# Altium schematic symbol library kmilo17pet-NSC_Interface.SchLib: 1433 symbols (part 24 of 51)
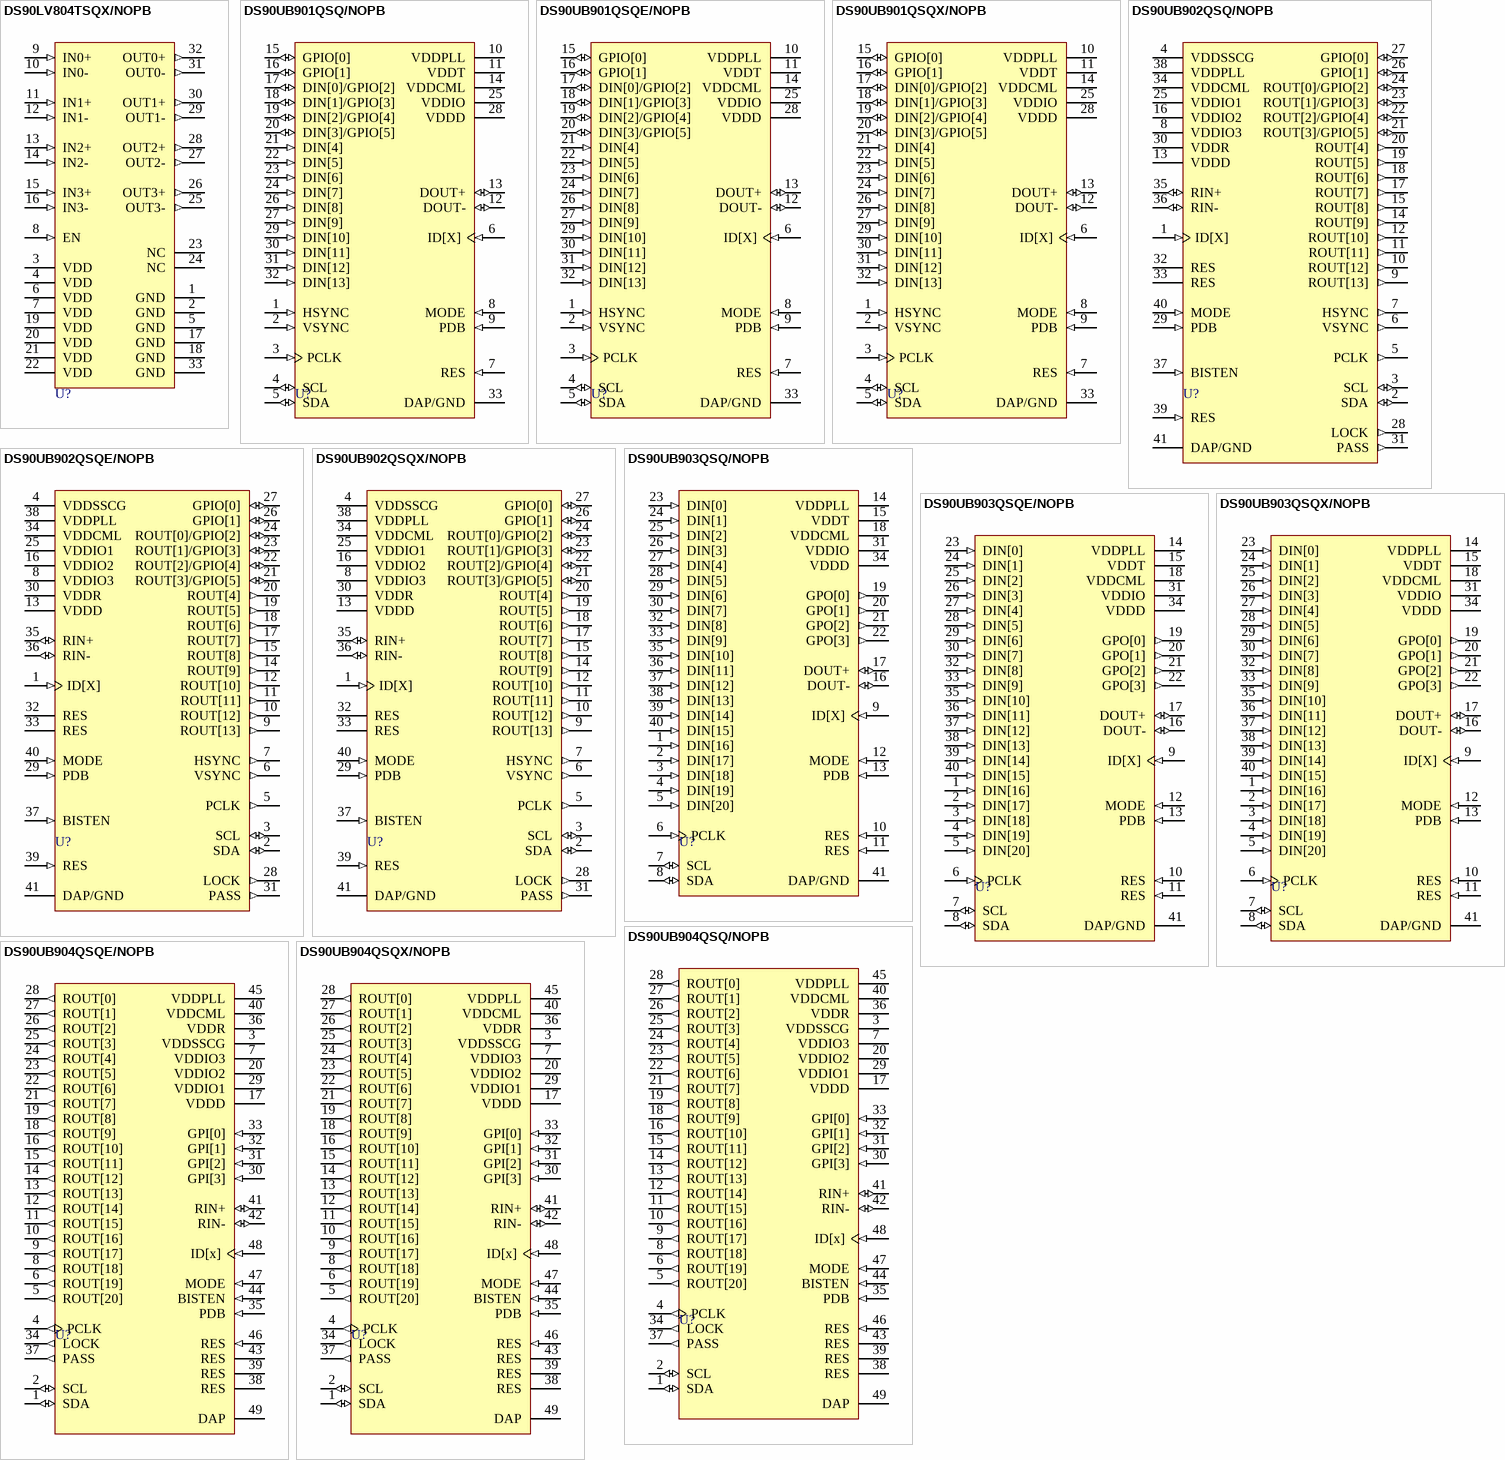
[diagram p147: symbols DS90LV804TSQX/NOPB to DS90UB904QSQX/NOPB]

## DS90UB904QSQ/NOPB
designator U?
10 - 43MHz 18 Bit Color FPD-Link III Deserializer with Bidirectional Control Channel, AECQ 2, 48-pin LLP, 1000 Reel; PartNumber: DS90UB904QSQ/NOPB; Manufacturer: National Semiconductor; PackageTopMarking: NS*UZXYTTE#*UB904QSQ; PowerWise: N; CompType: Interface IC; High-Reliability: Y; DatasheetVersion: Jan-2011; PackageVersion: revB, May-2009; PackageReference: SQA48A; PackageDescription: LLP, Plastic, Quad, 7 x 7 x 0.8mm Body, 48 Lead, 0.5mm Pitch, No Pullback; RoHS: Y; PinCount: 48; Code_JEDEC: MO-220-WKKD-2; ComponentLink1Description: Manufacturer URL; ComponentLink1URL: http://www.national.com/; ComponentLink2Description: DS90UB904Q Datasheet; ComponentLink2URL: http://www.national.com/ds/DS/DS90UB904Q.pdf; ComponentLink3Description: DS90UB904Q Web Page; ComponentLink3URL: http://www.national.com/pf/DS/DS90UB904Q.html; ComponentLink4Description: SQA48A Package Page; ComponentLink4URL: http://www.national.com/packaging/folders/sqa48a.html
footprint SQA48A (QFN, 48-Leads, Body 7x7mm, Pitch 0.5mm, Thermal Pad 5.2x5.2mm, NSC Recommended)
pins: 1 SDA (io), 2 SCL (io), 3 VDDSSCG (power), 4 PCLK (out), 5 ROUT[20] (out), 6 ROUT[19] (out), 7 VDDIO3 (power), 8 ROUT[18] (out), 9 ROUT[17] (out), 10 ROUT[16] (out), 11 ROUT[15] (out), 12 ROUT[14] (out), 13 ROUT[13] (out), 14 ROUT[12] (out), 15 ROUT[11] (out), 16 ROUT[10] (out), 17 VDDD (power), 18 ROUT[9] (out), 19 ROUT[8] (out), 20 VDDIO2 (power), 21 ROUT[7] (out), 22 ROUT[6] (out), 23 ROUT[5] (out), 24 ROUT[4] (out), 25 ROUT[3] (out), 26 ROUT[2] (out), 27 ROUT[1] (out), 28 ROUT[0] (out), 29 VDDIO1 (power), 30 GPI[3] (in), 31 GPI[2] (in), 32 GPI[1] (in), 33 GPI[0] (in), 34 LOCK (out), 35 PDB (in), 36 VDDR (power), 37 PASS (out), 38 RES, 39 RES, 40 VDDCML (power), 41 RIN+ (io), 42 RIN- (io), 43 RES, 44 BISTEN (in), 45 VDDPLL (power), 46 RES (in), 47 MODE (in), 48 ID[x] (in), 49 DAP (power)

## DS90UB904QSQE/NOPB
designator U?
10 - 43MHz 18 Bit Color FPD-Link III Deserializer with Bidirectional Control Channel, AECQ 2, 48-pin LLP, 250 Reel; PartNumber: DS90UB904QSQE/NOPB; Manufacturer: National Semiconductor; PackageTopMarking: NS*UZXYTTE#*UB904QSQ; PowerWise: N; CompType: Interface IC; High-Reliability: Y; DatasheetVersion: Jan-2011; PackageVersion: revB, May-2009; PackageReference: SQA48A; PackageDescription: LLP, Plastic, Quad, 7 x 7 x 0.8mm Body, 48 Lead, 0.5mm Pitch, No Pullback; RoHS: Y; PinCount: 48; Code_JEDEC: MO-220-WKKD-2; ComponentLink1Description: Manufacturer URL; ComponentLink1URL: http://www.national.com/; ComponentLink2Description: DS90UB904Q Datasheet; ComponentLink2URL: http://www.national.com/ds/DS/DS90UB904Q.pdf; ComponentLink3Description: DS90UB904Q Web Page; ComponentLink3URL: http://www.national.com/pf/DS/DS90UB904Q.html; ComponentLink4Description: SQA48A Package Page; ComponentLink4URL: http://www.national.com/packaging/folders/sqa48a.html
footprint SQA48A (QFN, 48-Leads, Body 7x7mm, Pitch 0.5mm, Thermal Pad 5.2x5.2mm, NSC Recommended)
pins: 1 SDA (io), 2 SCL (io), 3 VDDSSCG (power), 4 PCLK (out), 5 ROUT[20] (out), 6 ROUT[19] (out), 7 VDDIO3 (power), 8 ROUT[18] (out), 9 ROUT[17] (out), 10 ROUT[16] (out), 11 ROUT[15] (out), 12 ROUT[14] (out), 13 ROUT[13] (out), 14 ROUT[12] (out), 15 ROUT[11] (out), 16 ROUT[10] (out), 17 VDDD (power), 18 ROUT[9] (out), 19 ROUT[8] (out), 20 VDDIO2 (power), 21 ROUT[7] (out), 22 ROUT[6] (out), 23 ROUT[5] (out), 24 ROUT[4] (out), 25 ROUT[3] (out), 26 ROUT[2] (out), 27 ROUT[1] (out), 28 ROUT[0] (out), 29 VDDIO1 (power), 30 GPI[3] (in), 31 GPI[2] (in), 32 GPI[1] (in), 33 GPI[0] (in), 34 LOCK (out), 35 PDB (in), 36 VDDR (power), 37 PASS (out), 38 RES, 39 RES, 40 VDDCML (power), 41 RIN+ (io), 42 RIN- (io), 43 RES, 44 BISTEN (in), 45 VDDPLL (power), 46 RES (in), 47 MODE (in), 48 ID[x] (in), 49 DAP (power)

## DS90UB904QSQX/NOPB
designator U?
10 - 43MHz 18 Bit Color FPD-Link III Deserializer with Bidirectional Control Channel, AECQ 2, 48-pin LLP, 2500 Reel; PartNumber: DS90UB904QSQX/NOPB; Manufacturer: National Semiconductor; PackageTopMarking: NS*UZXYTTE#*UB904QSQ; PowerWise: N; CompType: Interface IC; High-Reliability: Y; DatasheetVersion: Jan-2011; PackageVersion: revB, May-2009; PackageReference: SQA48A; PackageDescription: LLP, Plastic, Quad, 7 x 7 x 0.8mm Body, 48 Lead, 0.5mm Pitch, No Pullback; RoHS: Y; PinCount: 48; Code_JEDEC: MO-220-WKKD-2; ComponentLink1Description: Manufacturer URL; ComponentLink1URL: http://www.national.com/; ComponentLink2Description: DS90UB904Q Datasheet; ComponentLink2URL: http://www.national.com/ds/DS/DS90UB904Q.pdf; ComponentLink3Description: DS90UB904Q Web Page; ComponentLink3URL: http://www.national.com/pf/DS/DS90UB904Q.html; ComponentLink4Description: SQA48A Package Page; ComponentLink4URL: http://www.national.com/packaging/folders/sqa48a.html
footprint SQA48A (QFN, 48-Leads, Body 7x7mm, Pitch 0.5mm, Thermal Pad 5.2x5.2mm, NSC Recommended)
pins: 1 SDA (io), 2 SCL (io), 3 VDDSSCG (power), 4 PCLK (out), 5 ROUT[20] (out), 6 ROUT[19] (out), 7 VDDIO3 (power), 8 ROUT[18] (out), 9 ROUT[17] (out), 10 ROUT[16] (out), 11 ROUT[15] (out), 12 ROUT[14] (out), 13 ROUT[13] (out), 14 ROUT[12] (out), 15 ROUT[11] (out), 16 ROUT[10] (out), 17 VDDD (power), 18 ROUT[9] (out), 19 ROUT[8] (out), 20 VDDIO2 (power), 21 ROUT[7] (out), 22 ROUT[6] (out), 23 ROUT[5] (out), 24 ROUT[4] (out), 25 ROUT[3] (out), 26 ROUT[2] (out), 27 ROUT[1] (out), 28 ROUT[0] (out), 29 VDDIO1 (power), 30 GPI[3] (in), 31 GPI[2] (in), 32 GPI[1] (in), 33 GPI[0] (in), 34 LOCK (out), 35 PDB (in), 36 VDDR (power), 37 PASS (out), 38 RES, 39 RES, 40 VDDCML (power), 41 RIN+ (io), 42 RIN- (io), 43 RES, 44 BISTEN (in), 45 VDDPLL (power), 46 RES (in), 47 MODE (in), 48 ID[x] (in), 49 DAP (power)

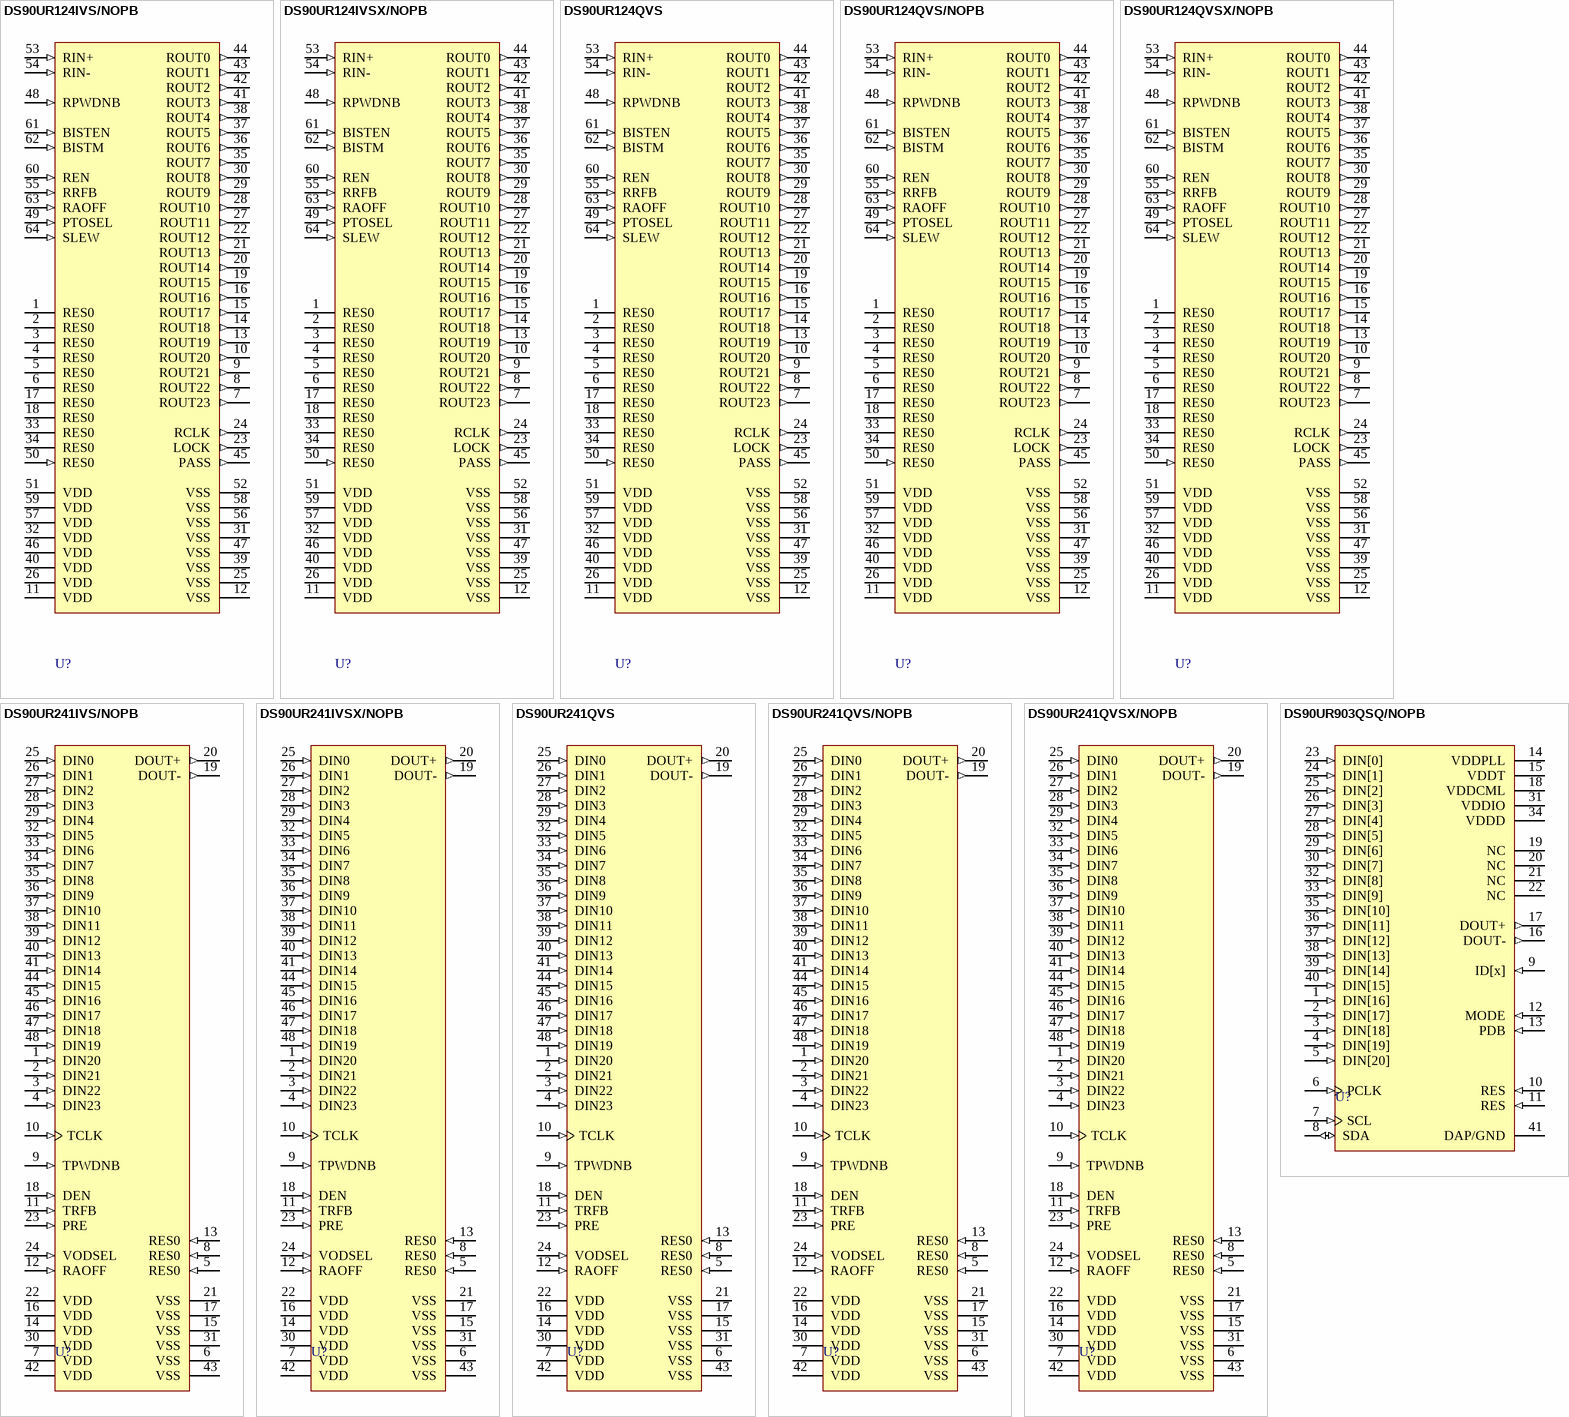
[diagram p64: symbols DS90UR124IVS/NOPB to DS90UR903QSQ/NOPB]

## DS90UR124IVS/NOPB
designator U?
5-43MHz DC-Balanced 24-Bit FPD-Link II Deserializer, 64 pin TQFP; PartNumber: DS90UR124IVS/NOPB; Manufacturer: National Semiconductor; PackageTopMarking: NSUZXYYTTE#*DS90UR124*IVS; PowerWise: N; CompType: Interface IC; High-Reliability: Y; DatasheetVersion: Sep-2009; PackageVersion: revB, Jul-2003; PackageReference: VEC64A; PackageDescription: TQFP, Jedec Metric, 10 x 10 x 1.0mm, 64 Lead, 0.5mm Pitch; RoHS: Y; PinCount: 64; Code_JEDEC: MS-026-ACD; ComponentLink1Description: Manufacturer URL; ComponentLink1URL: http://www.national.com/; ComponentLink2Description: DS90UR124 Datasheet; ComponentLink2URL: http://www.national.com/ds/DS/DS90UR124.pdf; ComponentLink3Description: DS90UR124 Web Page; ComponentLink3URL: http://www.national.com/pf/DS/DS90UR124.html; ComponentLink4Description: VEC64A Package Page; ComponentLink4URL: http://www.national.com/packaging/folders/vec64a.html
footprint VEC64A_N (Thin QFP, 64-Leads, Body 10x10mm, Pitch 0.5mm, IPC Medium Density)
footprint VEC64A_L (Thin QFP, 64-Leads, Body 10x10mm, Pitch 0.5mm, IPC High Density)
footprint VEC64A_M (Thin QFP, 64-Leads, Body 10x10mm, Pitch 0.5mm, IPC Low Density)
pins: 1 RES0, 2 RES0, 3 RES0, 4 RES0, 5 RES0, 6 RES0, 7 ROUT23 (out), 8 ROUT22 (out), 9 ROUT21 (out), 10 ROUT20 (out), 11 VDD (power), 12 VSS (power), 13 ROUT19 (out), 14 ROUT18 (out), 15 ROUT17 (out), 16 ROUT16 (out), 17 RES0, 18 RES0, 19 ROUT15 (out), 20 ROUT14 (out), 21 ROUT13 (out), 22 ROUT12 (out), 23 LOCK (out), 24 RCLK (out), 25 VSS (power), 26 VDD (power), 27 ROUT11 (out), 28 ROUT10 (out), 29 ROUT9 (out), 30 ROUT8 (out), 31 VSS (power), 32 VDD (power), 33 RES0, 34 RES0, 35 ROUT7 (out), 36 ROUT6 (out), 37 ROUT5 (out), 38 ROUT4 (out), 39 VSS (power), 40 VDD (power), 41 ROUT3 (out), 42 ROUT2 (out), 43 ROUT1 (out), 44 ROUT0 (out), 45 PASS (out), 46 VDD (power), 47 VSS (power), 48 RPWDNB (in), 49 PTOSEL (in), 50 RES0 (in), 51 VDD (power), 52 VSS (power), 53 RIN+ (in), 54 RIN- (in), 55 RRFB (in), 56 VSS (power), 57 VDD (power), 58 VSS (power), 59 VDD (power), 60 REN (in), 61 BISTEN (in), 62 BISTM (in), 63 RAOFF (in), 64 SLEW (in)

## DS90UR124IVSX/NOPB
designator U?
5-43MHz DC-Balanced 24-Bit FPD-Link II Deserializer, 64 pin TQFP; PartNumber: DS90UR124IVSX/NOPB; Manufacturer: National Semiconductor; PackageTopMarking: NSUZXYYTTE#*DS90UR124*IVS; PowerWise: N; CompType: Interface IC; High-Reliability: Y; DatasheetVersion: Sep-2009; PackageVersion: revB, Jul-2003; PackageReference: VEC64A; PackageDescription: TQFP, Jedec Metric, 10 x 10 x 1.0mm, 64 Lead, 0.5mm Pitch; RoHS: Y; PinCount: 64; Code_JEDEC: MS-026-ACD; ComponentLink1Description: Manufacturer URL; ComponentLink1URL: http://www.national.com/; ComponentLink2Description: DS90UR124 Datasheet; ComponentLink2URL: http://www.national.com/ds/DS/DS90UR124.pdf; ComponentLink3Description: DS90UR124 Web Page; ComponentLink3URL: http://www.national.com/pf/DS/DS90UR124.html; ComponentLink4Description: VEC64A Package Page; ComponentLink4URL: http://www.national.com/packaging/folders/vec64a.html
footprint VEC64A_N (Thin QFP, 64-Leads, Body 10x10mm, Pitch 0.5mm, IPC Medium Density)
footprint VEC64A_L (Thin QFP, 64-Leads, Body 10x10mm, Pitch 0.5mm, IPC High Density)
footprint VEC64A_M (Thin QFP, 64-Leads, Body 10x10mm, Pitch 0.5mm, IPC Low Density)
pins: 1 RES0, 2 RES0, 3 RES0, 4 RES0, 5 RES0, 6 RES0, 7 ROUT23 (out), 8 ROUT22 (out), 9 ROUT21 (out), 10 ROUT20 (out), 11 VDD (power), 12 VSS (power), 13 ROUT19 (out), 14 ROUT18 (out), 15 ROUT17 (out), 16 ROUT16 (out), 17 RES0, 18 RES0, 19 ROUT15 (out), 20 ROUT14 (out), 21 ROUT13 (out), 22 ROUT12 (out), 23 LOCK (out), 24 RCLK (out), 25 VSS (power), 26 VDD (power), 27 ROUT11 (out), 28 ROUT10 (out), 29 ROUT9 (out), 30 ROUT8 (out), 31 VSS (power), 32 VDD (power), 33 RES0, 34 RES0, 35 ROUT7 (out), 36 ROUT6 (out), 37 ROUT5 (out), 38 ROUT4 (out), 39 VSS (power), 40 VDD (power), 41 ROUT3 (out), 42 ROUT2 (out), 43 ROUT1 (out), 44 ROUT0 (out), 45 PASS (out), 46 VDD (power), 47 VSS (power), 48 RPWDNB (in), 49 PTOSEL (in), 50 RES0 (in), 51 VDD (power), 52 VSS (power), 53 RIN+ (in), 54 RIN- (in), 55 RRFB (in), 56 VSS (power), 57 VDD (power), 58 VSS (power), 59 VDD (power), 60 REN (in), 61 BISTEN (in), 62 BISTM (in), 63 RAOFF (in), 64 SLEW (in)

## DS90UR124QVS
designator U?
5-43MHz DC- Balanced 24-Bit LVDS Deserializer, 64-pin TQFP; PartNumber: DS90UR124QVS; Manufacturer: National Semiconductor; PackageTopMarking: NSUZXYYTT*DS90UR124*QVS; PowerWise: N; CompType: Interface IC; High-Reliability: Y; DatasheetVersion: Sep-2009; PackageVersion: revB, Jul-2003; PackageReference: VEC64A; PackageDescription: TQFP, Jedec Metric, 10 x 10 x 1.0mm, 64 Lead, 0.5mm Pitch; RoHS: Y; PinCount: 64; Code_JEDEC: MS-026-ACD; ComponentLink1Description: Manufacturer URL; ComponentLink1URL: http://www.national.com/; ComponentLink2Description: DS90UR124 Datasheet; ComponentLink2URL: http://www.national.com/ds/DS/DS90UR124.pdf; ComponentLink3Description: DS90UR124 Web Page; ComponentLink3URL: http://www.national.com/pf/DS/DS90UR124.html; ComponentLink4Description: VEC64A Package Page; ComponentLink4URL: http://www.national.com/packaging/folders/vec64a.html
footprint VEC64A_N (Thin QFP, 64-Leads, Body 10x10mm, Pitch 0.5mm, IPC Medium Density)
footprint VEC64A_L (Thin QFP, 64-Leads, Body 10x10mm, Pitch 0.5mm, IPC High Density)
footprint VEC64A_M (Thin QFP, 64-Leads, Body 10x10mm, Pitch 0.5mm, IPC Low Density)
pins: 1 RES0, 2 RES0, 3 RES0, 4 RES0, 5 RES0, 6 RES0, 7 ROUT23 (out), 8 ROUT22 (out), 9 ROUT21 (out), 10 ROUT20 (out), 11 VDD (power), 12 VSS (power), 13 ROUT19 (out), 14 ROUT18 (out), 15 ROUT17 (out), 16 ROUT16 (out), 17 RES0, 18 RES0, 19 ROUT15 (out), 20 ROUT14 (out), 21 ROUT13 (out), 22 ROUT12 (out), 23 LOCK (out), 24 RCLK (out), 25 VSS (power), 26 VDD (power), 27 ROUT11 (out), 28 ROUT10 (out), 29 ROUT9 (out), 30 ROUT8 (out), 31 VSS (power), 32 VDD (power), 33 RES0, 34 RES0, 35 ROUT7 (out), 36 ROUT6 (out), 37 ROUT5 (out), 38 ROUT4 (out), 39 VSS (power), 40 VDD (power), 41 ROUT3 (out), 42 ROUT2 (out), 43 ROUT1 (out), 44 ROUT0 (out), 45 PASS (out), 46 VDD (power), 47 VSS (power), 48 RPWDNB (in), 49 PTOSEL (in), 50 RES0 (in), 51 VDD (power), 52 VSS (power), 53 RIN+ (in), 54 RIN- (in), 55 RRFB (in), 56 VSS (power), 57 VDD (power), 58 VSS (power), 59 VDD (power), 60 REN (in), 61 BISTEN (in), 62 BISTM (in), 63 RAOFF (in), 64 SLEW (in)

## DS90UR124QVS/NOPB
designator U?
5-43MHz DC-Balanced 24-Bit FPD-Link II Deserializer, 64-pin TQFP, Pb-Free; PartNumber: DS90UR124QVS/NOPB; Manufacturer: National Semiconductor; PackageTopMarking: NSUZXYYTTE#*DS90UR124*QVS; PowerWise: N; CompType: Interface IC; High-Reliability: Y; DatasheetVersion: Sep-2009; PackageVersion: revB, Jul-2003; PackageReference: VEC64A; PackageDescription: TQFP, Jedec Metric, 10 x 10 x 1.0mm, 64 Lead, 0.5mm Pitch; RoHS: Y; PinCount: 64; Code_JEDEC: MS-026-ACD; ComponentLink1Description: Manufacturer URL; ComponentLink1URL: http://www.national.com/; ComponentLink2Description: DS90UR124 Datasheet; ComponentLink2URL: http://www.national.com/ds/DS/DS90UR124.pdf; ComponentLink3Description: DS90UR124 Web Page; ComponentLink3URL: http://www.national.com/pf/DS/DS90UR124.html; ComponentLink4Description: VEC64A Package Page; ComponentLink4URL: http://www.national.com/packaging/folders/vec64a.html
footprint VEC64A_N (Thin QFP, 64-Leads, Body 10x10mm, Pitch 0.5mm, IPC Medium Density)
footprint VEC64A_L (Thin QFP, 64-Leads, Body 10x10mm, Pitch 0.5mm, IPC High Density)
footprint VEC64A_M (Thin QFP, 64-Leads, Body 10x10mm, Pitch 0.5mm, IPC Low Density)
pins: 1 RES0, 2 RES0, 3 RES0, 4 RES0, 5 RES0, 6 RES0, 7 ROUT23 (out), 8 ROUT22 (out), 9 ROUT21 (out), 10 ROUT20 (out), 11 VDD (power), 12 VSS (power), 13 ROUT19 (out), 14 ROUT18 (out), 15 ROUT17 (out), 16 ROUT16 (out), 17 RES0, 18 RES0, 19 ROUT15 (out), 20 ROUT14 (out), 21 ROUT13 (out), 22 ROUT12 (out), 23 LOCK (out), 24 RCLK (out), 25 VSS (power), 26 VDD (power), 27 ROUT11 (out), 28 ROUT10 (out), 29 ROUT9 (out), 30 ROUT8 (out), 31 VSS (power), 32 VDD (power), 33 RES0, 34 RES0, 35 ROUT7 (out), 36 ROUT6 (out), 37 ROUT5 (out), 38 ROUT4 (out), 39 VSS (power), 40 VDD (power), 41 ROUT3 (out), 42 ROUT2 (out), 43 ROUT1 (out), 44 ROUT0 (out), 45 PASS (out), 46 VDD (power), 47 VSS (power), 48 RPWDNB (in), 49 PTOSEL (in), 50 RES0 (in), 51 VDD (power), 52 VSS (power), 53 RIN+ (in), 54 RIN- (in), 55 RRFB (in), 56 VSS (power), 57 VDD (power), 58 VSS (power), 59 VDD (power), 60 REN (in), 61 BISTEN (in), 62 BISTM (in), 63 RAOFF (in), 64 SLEW (in)

## DS90UR124QVSX/NOPB
designator U?
5-43MHz DC-Balanced 24-Bit FPD-Link II Deserializer, 64-pin TQFP, Pb-Free; PartNumber: DS90UR124QVSX/NOPB; Manufacturer: National Semiconductor; PackageTopMarking: NSUZXYYTTE#*DS90UR124*QVS; PowerWise: N; CompType: Interface IC; High-Reliability: Y; DatasheetVersion: Sep-2009; PackageVersion: revB, Jul-2003; PackageReference: VEC64A; PackageDescription: TQFP, Jedec Metric, 10 x 10 x 1.0mm, 64 Lead, 0.5mm Pitch; RoHS: Y; PinCount: 64; Code_JEDEC: MS-026-ACD; ComponentLink1Description: Manufacturer URL; ComponentLink1URL: http://www.national.com/; ComponentLink2Description: DS90UR124 Datasheet; ComponentLink2URL: http://www.national.com/ds/DS/DS90UR124.pdf; ComponentLink3Description: DS90UR124 Web Page; ComponentLink3URL: http://www.national.com/pf/DS/DS90UR124.html; ComponentLink4Description: VEC64A Package Page; ComponentLink4URL: http://www.national.com/packaging/folders/vec64a.html
footprint VEC64A_N (Thin QFP, 64-Leads, Body 10x10mm, Pitch 0.5mm, IPC Medium Density)
footprint VEC64A_L (Thin QFP, 64-Leads, Body 10x10mm, Pitch 0.5mm, IPC High Density)
footprint VEC64A_M (Thin QFP, 64-Leads, Body 10x10mm, Pitch 0.5mm, IPC Low Density)
pins: 1 RES0, 2 RES0, 3 RES0, 4 RES0, 5 RES0, 6 RES0, 7 ROUT23 (out), 8 ROUT22 (out), 9 ROUT21 (out), 10 ROUT20 (out), 11 VDD (power), 12 VSS (power), 13 ROUT19 (out), 14 ROUT18 (out), 15 ROUT17 (out), 16 ROUT16 (out), 17 RES0, 18 RES0, 19 ROUT15 (out), 20 ROUT14 (out), 21 ROUT13 (out), 22 ROUT12 (out), 23 LOCK (out), 24 RCLK (out), 25 VSS (power), 26 VDD (power), 27 ROUT11 (out), 28 ROUT10 (out), 29 ROUT9 (out), 30 ROUT8 (out), 31 VSS (power), 32 VDD (power), 33 RES0, 34 RES0, 35 ROUT7 (out), 36 ROUT6 (out), 37 ROUT5 (out), 38 ROUT4 (out), 39 VSS (power), 40 VDD (power), 41 ROUT3 (out), 42 ROUT2 (out), 43 ROUT1 (out), 44 ROUT0 (out), 45 PASS (out), 46 VDD (power), 47 VSS (power), 48 RPWDNB (in), 49 PTOSEL (in), 50 RES0 (in), 51 VDD (power), 52 VSS (power), 53 RIN+ (in), 54 RIN- (in), 55 RRFB (in), 56 VSS (power), 57 VDD (power), 58 VSS (power), 59 VDD (power), 60 REN (in), 61 BISTEN (in), 62 BISTM (in), 63 RAOFF (in), 64 SLEW (in)

## DS90UR241IVS/NOPB
designator U?
5-43MHz DC-Balanced 24-Bit FPD-Link II Serializer, 48 pin TQFP; PartNumber: DS90UR241IVS/NOPB; Manufacturer: National Semiconductor; PackageTopMarking: NSUZXYTT*DS90UR24*1IVS; PowerWise: N; CompType: Interface IC; High-Reliability: Y; DatasheetVersion: Sep-2009; PackageVersion: revA, Apr-2000; PackageReference: VBC48A; PackageDescription: TQFP, Jedec Metric, 7 x 7 x 1mm, 48 Lead, 0.5mm Pitch; RoHS: Y; PinCount: 48; Code_JEDEC: MS-026-ABC; ComponentLink1Description: Manufacturer URL; ComponentLink1URL: http://www.national.com/; ComponentLink2Description: DS90UR241 Datasheet; ComponentLink2URL: http://www.national.com/ds/DS/DS90UR241.pdf; ComponentLink3Description: DS90UR241 Web Page; ComponentLink3URL: http://www.national.com/pf/DS/DS90UR241.html; ComponentLink4Description: VBC48A Package Page; ComponentLink4URL: http://www.national.com/packaging/folders/vbc48a.html
footprint VBC48A_N (Thin QFP, 48-Leads, Body 7x7mm, Pitch 0.5mm, IPC Medium Density)
footprint VBC48A_L (Thin QFP, 48-Leads, Body 7x7mm, Pitch 0.5mm, IPC High Density)
footprint VBC48A_M (Thin QFP, 48-Leads, Body 7x7mm, Pitch 0.5mm, IPC Low Density)
pins: 1 DIN20 (in), 2 DIN21 (in), 3 DIN22 (in), 4 DIN23 (in), 5 RES0 (in), 6 VSS (power), 7 VDD (power), 8 RES0 (in), 9 TPWDNB (in), 10 TCLK (in), 11 TRFB (in), 12 RAOFF (in), 13 RES0 (in), 14 VDD (power), 15 VSS (power), 16 VDD (power), 17 VSS (power), 18 DEN (in), 19 DOUT- (out), 20 DOUT+ (out), 21 VSS (power), 22 VDD (power), 23 PRE (in), 24 VODSEL (in), 25 DIN0 (in), 26 DIN1 (in), 27 DIN2 (in), 28 DIN3 (in), 29 DIN4 (in), 30 VDD (power), 31 VSS (power), 32 DIN5 (in), 33 DIN6 (in), 34 DIN7 (in), 35 DIN8 (in), 36 DIN9 (in), 37 DIN10 (in), 38 DIN11 (in), 39 DIN12 (in), 40 DIN13 (in), 41 DIN14 (in), 42 VDD (power), 43 VSS (power), 44 DIN15 (in), 45 DIN16 (in), 46 DIN17 (in), 47 DIN18 (in), 48 DIN19 (in)

## DS90UR241IVSX/NOPB
designator U?
5-43MHz DC-Balanced 24-Bit FPD-Link II Serializer, 48 pin TQFP; PartNumber: DS90UR241IVSX/NOPB; Manufacturer: National Semiconductor; PackageTopMarking: NSUZXYTT*DS90UR24*1IVS; PowerWise: N; CompType: Interface IC; High-Reliability: Y; DatasheetVersion: Sep-2009; PackageVersion: revA, Apr-2000; PackageReference: VBC48A; PackageDescription: TQFP, Jedec Metric, 7 x 7 x 1mm, 48 Lead, 0.5mm Pitch; RoHS: Y; PinCount: 48; Code_JEDEC: MS-026-ABC; ComponentLink1Description: Manufacturer URL; ComponentLink1URL: http://www.national.com/; ComponentLink2Description: DS90UR241 Datasheet; ComponentLink2URL: http://www.national.com/ds/DS/DS90UR241.pdf; ComponentLink3Description: DS90UR241 Web Page; ComponentLink3URL: http://www.national.com/pf/DS/DS90UR241.html; ComponentLink4Description: VBC48A Package Page; ComponentLink4URL: http://www.national.com/packaging/folders/vbc48a.html
footprint VBC48A_N (Thin QFP, 48-Leads, Body 7x7mm, Pitch 0.5mm, IPC Medium Density)
footprint VBC48A_L (Thin QFP, 48-Leads, Body 7x7mm, Pitch 0.5mm, IPC High Density)
footprint VBC48A_M (Thin QFP, 48-Leads, Body 7x7mm, Pitch 0.5mm, IPC Low Density)
pins: 1 DIN20 (in), 2 DIN21 (in), 3 DIN22 (in), 4 DIN23 (in), 5 RES0 (in), 6 VSS (power), 7 VDD (power), 8 RES0 (in), 9 TPWDNB (in), 10 TCLK (in), 11 TRFB (in), 12 RAOFF (in), 13 RES0 (in), 14 VDD (power), 15 VSS (power), 16 VDD (power), 17 VSS (power), 18 DEN (in), 19 DOUT- (out), 20 DOUT+ (out), 21 VSS (power), 22 VDD (power), 23 PRE (in), 24 VODSEL (in), 25 DIN0 (in), 26 DIN1 (in), 27 DIN2 (in), 28 DIN3 (in), 29 DIN4 (in), 30 VDD (power), 31 VSS (power), 32 DIN5 (in), 33 DIN6 (in), 34 DIN7 (in), 35 DIN8 (in), 36 DIN9 (in), 37 DIN10 (in), 38 DIN11 (in), 39 DIN12 (in), 40 DIN13 (in), 41 DIN14 (in), 42 VDD (power), 43 VSS (power), 44 DIN15 (in), 45 DIN16 (in), 46 DIN17 (in), 47 DIN18 (in), 48 DIN19 (in)

## DS90UR241QVS
designator U?
5-43MHz DC- Balanced 24-Bit LVDS Serializer, 48-pin TQFP; PartNumber: DS90UR241QVS; Manufacturer: National Semiconductor; PackageTopMarking: NSUZXYTT*DS90UR24*1QVS; PowerWise: N; CompType: Interface IC; High-Reliability: Y; DatasheetVersion: Sep-2009; PackageVersion: revA, Apr-2000; PackageReference: VBC48A; PackageDescription: TQFP, Jedec Metric, 7 x 7 x 1mm, 48 Lead, 0.5mm Pitch; RoHS: Y; PinCount: 48; Code_JEDEC: MS-026-ABC; ComponentLink1Description: Manufacturer URL; ComponentLink1URL: http://www.national.com/; ComponentLink2Description: DS90UR241 Datasheet; ComponentLink2URL: http://www.national.com/ds/DS/DS90UR241.pdf; ComponentLink3Description: DS90UR241 Web Page; ComponentLink3URL: http://www.national.com/pf/DS/DS90UR241.html; ComponentLink4Description: VBC48A Package Page; ComponentLink4URL: http://www.national.com/packaging/folders/vbc48a.html
footprint VBC48A_N (Thin QFP, 48-Leads, Body 7x7mm, Pitch 0.5mm, IPC Medium Density)
footprint VBC48A_L (Thin QFP, 48-Leads, Body 7x7mm, Pitch 0.5mm, IPC High Density)
footprint VBC48A_M (Thin QFP, 48-Leads, Body 7x7mm, Pitch 0.5mm, IPC Low Density)
pins: 1 DIN20 (in), 2 DIN21 (in), 3 DIN22 (in), 4 DIN23 (in), 5 RES0 (in), 6 VSS (power), 7 VDD (power), 8 RES0 (in), 9 TPWDNB (in), 10 TCLK (in), 11 TRFB (in), 12 RAOFF (in), 13 RES0 (in), 14 VDD (power), 15 VSS (power), 16 VDD (power), 17 VSS (power), 18 DEN (in), 19 DOUT- (out), 20 DOUT+ (out), 21 VSS (power), 22 VDD (power), 23 PRE (in), 24 VODSEL (in), 25 DIN0 (in), 26 DIN1 (in), 27 DIN2 (in), 28 DIN3 (in), 29 DIN4 (in), 30 VDD (power), 31 VSS (power), 32 DIN5 (in), 33 DIN6 (in), 34 DIN7 (in), 35 DIN8 (in), 36 DIN9 (in), 37 DIN10 (in), 38 DIN11 (in), 39 DIN12 (in), 40 DIN13 (in), 41 DIN14 (in), 42 VDD (power), 43 VSS (power), 44 DIN15 (in), 45 DIN16 (in), 46 DIN17 (in), 47 DIN18 (in), 48 DIN19 (in)

## DS90UR241QVS/NOPB
designator U?
5-43MHz DC-Balanced 24-Bit FPD-Link II Serializer, 48-pin TQFP, Pb-Free; PartNumber: DS90UR241QVS/NOPB; Manufacturer: National Semiconductor; PackageTopMarking: NSUZXYTT*DS90UR24*1QVS; PowerWise: N; CompType: Interface IC; High-Reliability: Y; DatasheetVersion: Sep-2009; PackageVersion: revA, Apr-2000; PackageReference: VBC48A; PackageDescription: TQFP, Jedec Metric, 7 x 7 x 1mm, 48 Lead, 0.5mm Pitch; RoHS: Y; PinCount: 48; Code_JEDEC: MS-026-ABC; ComponentLink1Description: Manufacturer URL; ComponentLink1URL: http://www.national.com/; ComponentLink2Description: DS90UR241 Datasheet; ComponentLink2URL: http://www.national.com/ds/DS/DS90UR241.pdf; ComponentLink3Description: DS90UR241 Web Page; ComponentLink3URL: http://www.national.com/pf/DS/DS90UR241.html; ComponentLink4Description: VBC48A Package Page; ComponentLink4URL: http://www.national.com/packaging/folders/vbc48a.html
footprint VBC48A_N (Thin QFP, 48-Leads, Body 7x7mm, Pitch 0.5mm, IPC Medium Density)
footprint VBC48A_L (Thin QFP, 48-Leads, Body 7x7mm, Pitch 0.5mm, IPC High Density)
footprint VBC48A_M (Thin QFP, 48-Leads, Body 7x7mm, Pitch 0.5mm, IPC Low Density)
pins: 1 DIN20 (in), 2 DIN21 (in), 3 DIN22 (in), 4 DIN23 (in), 5 RES0 (in), 6 VSS (power), 7 VDD (power), 8 RES0 (in), 9 TPWDNB (in), 10 TCLK (in), 11 TRFB (in), 12 RAOFF (in), 13 RES0 (in), 14 VDD (power), 15 VSS (power), 16 VDD (power), 17 VSS (power), 18 DEN (in), 19 DOUT- (out), 20 DOUT+ (out), 21 VSS (power), 22 VDD (power), 23 PRE (in), 24 VODSEL (in), 25 DIN0 (in), 26 DIN1 (in), 27 DIN2 (in), 28 DIN3 (in), 29 DIN4 (in), 30 VDD (power), 31 VSS (power), 32 DIN5 (in), 33 DIN6 (in), 34 DIN7 (in), 35 DIN8 (in), 36 DIN9 (in), 37 DIN10 (in), 38 DIN11 (in), 39 DIN12 (in), 40 DIN13 (in), 41 DIN14 (in), 42 VDD (power), 43 VSS (power), 44 DIN15 (in), 45 DIN16 (in), 46 DIN17 (in), 47 DIN18 (in), 48 DIN19 (in)

## DS90UR241QVSX/NOPB
designator U?
5-43MHz DC-Balanced 24-Bit FPD-Link II Serializer, 48-pin TQFP, Pb-Free; PartNumber: DS90UR241QVSX/NOPB; Manufacturer: National Semiconductor; PackageTopMarking: NSUZXYTT*DS90UR24*1QVS; PowerWise: N; CompType: Interface IC; High-Reliability: Y; DatasheetVersion: Sep-2009; PackageVersion: revA, Apr-2000; PackageReference: VBC48A; PackageDescription: TQFP, Jedec Metric, 7 x 7 x 1mm, 48 Lead, 0.5mm Pitch; RoHS: Y; PinCount: 48; Code_JEDEC: MS-026-ABC; ComponentLink1Description: Manufacturer URL; ComponentLink1URL: http://www.national.com/; ComponentLink2Description: DS90UR241 Datasheet; ComponentLink2URL: http://www.national.com/ds/DS/DS90UR241.pdf; ComponentLink3Description: DS90UR241 Web Page; ComponentLink3URL: http://www.national.com/pf/DS/DS90UR241.html; ComponentLink4Description: VBC48A Package Page; ComponentLink4URL: http://www.national.com/packaging/folders/vbc48a.html
footprint VBC48A_N (Thin QFP, 48-Leads, Body 7x7mm, Pitch 0.5mm, IPC Medium Density)
footprint VBC48A_L (Thin QFP, 48-Leads, Body 7x7mm, Pitch 0.5mm, IPC High Density)
footprint VBC48A_M (Thin QFP, 48-Leads, Body 7x7mm, Pitch 0.5mm, IPC Low Density)
pins: 1 DIN20 (in), 2 DIN21 (in), 3 DIN22 (in), 4 DIN23 (in), 5 RES0 (in), 6 VSS (power), 7 VDD (power), 8 RES0 (in), 9 TPWDNB (in), 10 TCLK (in), 11 TRFB (in), 12 RAOFF (in), 13 RES0 (in), 14 VDD (power), 15 VSS (power), 16 VDD (power), 17 VSS (power), 18 DEN (in), 19 DOUT- (out), 20 DOUT+ (out), 21 VSS (power), 22 VDD (power), 23 PRE (in), 24 VODSEL (in), 25 DIN0 (in), 26 DIN1 (in), 27 DIN2 (in), 28 DIN3 (in), 29 DIN4 (in), 30 VDD (power), 31 VSS (power), 32 DIN5 (in), 33 DIN6 (in), 34 DIN7 (in), 35 DIN8 (in), 36 DIN9 (in), 37 DIN10 (in), 38 DIN11 (in), 39 DIN12 (in), 40 DIN13 (in), 41 DIN14 (in), 42 VDD (power), 43 VSS (power), 44 DIN15 (in), 45 DIN16 (in), 46 DIN17 (in), 47 DIN18 (in), 48 DIN19 (in)

## DS90UR903QSQ/NOPB
designator U?
10 - 43MHz 18 Bit Color FPD-Link II Serializer, 40-pin LLP; PartNumber: DS90UR903QSQ/NOPB; Manufacturer: National Semiconductor; PackageTopMarking: NS*UZXYTTE#*UR903QSQ; PowerWise: Y; CompType: Interface IC; DatasheetVersion: Sep-2011; PackageVersion: revB, Mar-2004; PackageReference: SQA40A-V16; PackageDescription: LLP, Plastic, Quad, 6 x 6 x 0.8mm Body, 40 Lead, 0.5mm Pitch, No Pullback; RoHS: Y; PinCount: 40; High-Reliability: Y; ComponentLink1Description: Manufacturer URL; ComponentLink1URL: http://www.national.com/; ComponentLink2Description: DS90UR903Q Datasheet; ComponentLink2URL: http://www.national.com/ds/DS/DS90UR903Q.pdf; ComponentLink3Description: DS90UR903Q Web Page; ComponentLink3URL: http://www.national.com/pf/DS/DS90UR903Q.html; ComponentLink4Description: SQA40A Package Page; ComponentLink4URL: http://www.national.com/packaging/folders/sqa40a.html
footprint SQA40A-V16 (QFN, 40-Leads, Body 6x6mm, Pitch 0.5mm, Thermal Pad 4.7x4.7mm, 16 vias, NSC Recommended)
pins: 1 DIN[16] (in), 2 DIN[17] (in), 3 DIN[18] (in), 4 DIN[19] (in), 5 DIN[20] (in), 6 PCLK (in), 7 SCL (in), 8 SDA (io), 9 ID[x] (in), 10 RES (in), 11 RES (in), 12 MODE (in), 13 PDB (in), 14 VDDPLL (power), 15 VDDT (power), 16 DOUT- (out), 17 DOUT+ (out), 18 VDDCML (power), 19 NC, 20 NC, 21 NC, 22 NC, 23 DIN[0] (in), 24 DIN[1] (in), 25 DIN[2] (in), 26 DIN[3] (in), 27 DIN[4] (in), 28 DIN[5] (in), 29 DIN[6] (in), 30 DIN[7] (in), 31 VDDIO (power), 32 DIN[8] (in), 33 DIN[9] (in), 34 VDDD (power), 35 DIN[10] (in), 36 DIN[11] (in), 37 DIN[12] (in), 38 DIN[13] (in), 39 DIN[14] (in), 40 DIN[15] (in), 41 DAP/GND (power)

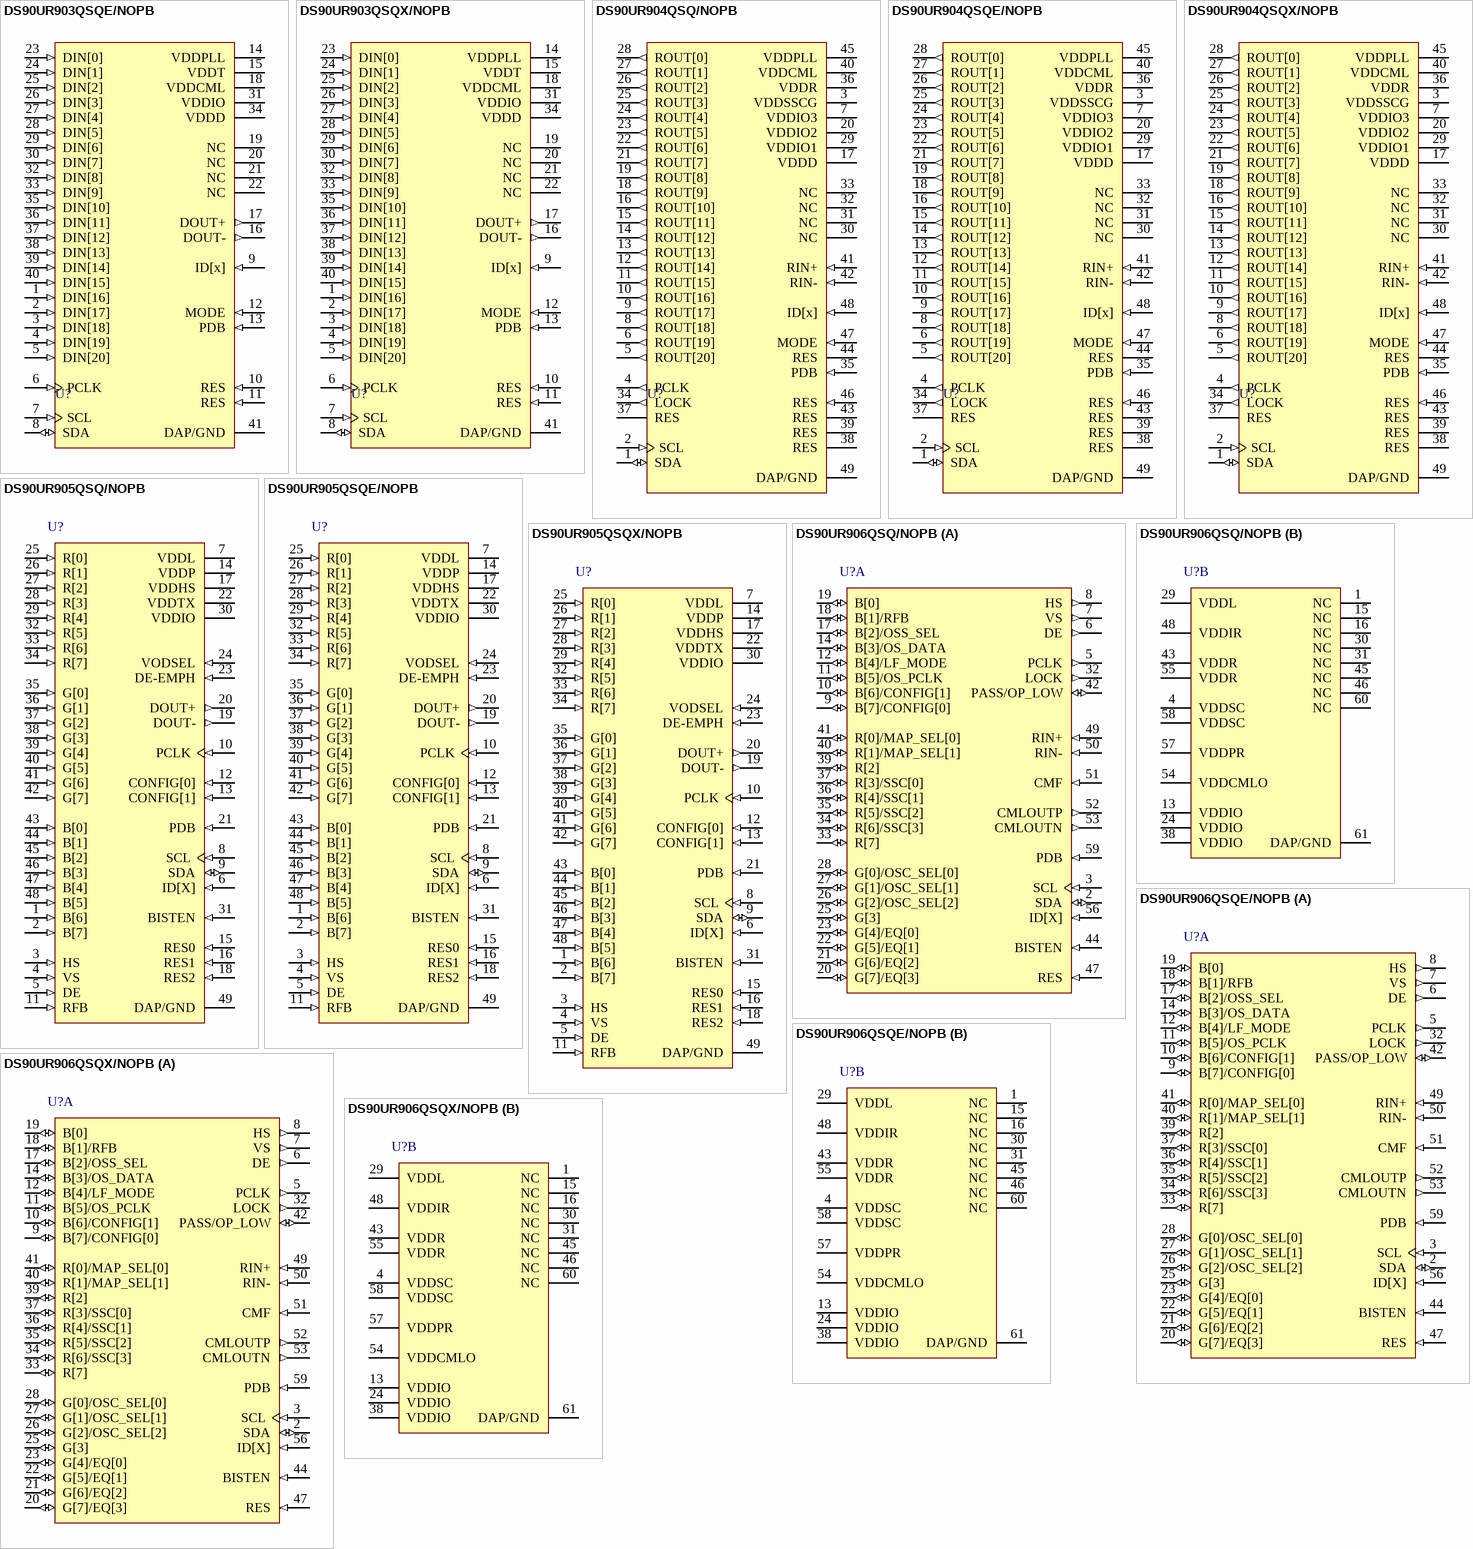
[diagram p65: symbols DS90UR903QSQE/NOPB to DS90UR906QSQX/NOPB]

## DS90UR903QSQE/NOPB
designator U?
10 - 43MHz 18 Bit Color FPD-Link II Serializer, 40-pin LLP; PartNumber: DS90UR903QSQE/NOPB; Manufacturer: National Semiconductor; PackageTopMarking: NS*UZXYTTE#*UR903QSQ; PowerWise: Y; CompType: Interface IC; DatasheetVersion: Sep-2011; PackageVersion: revB, Mar-2004; PackageReference: SQA40A-V16; PackageDescription: LLP, Plastic, Quad, 6 x 6 x 0.8mm Body, 40 Lead, 0.5mm Pitch, No Pullback; RoHS: Y; PinCount: 40; High-Reliability: Y; ComponentLink1Description: Manufacturer URL; ComponentLink1URL: http://www.national.com/; ComponentLink2Description: DS90UR903Q Datasheet; ComponentLink2URL: http://www.national.com/ds/DS/DS90UR903Q.pdf; ComponentLink3Description: DS90UR903Q Web Page; ComponentLink3URL: http://www.national.com/pf/DS/DS90UR903Q.html; ComponentLink4Description: SQA40A Package Page; ComponentLink4URL: http://www.national.com/packaging/folders/sqa40a.html
footprint SQA40A-V16 (QFN, 40-Leads, Body 6x6mm, Pitch 0.5mm, Thermal Pad 4.7x4.7mm, 16 vias, NSC Recommended)
pins: 1 DIN[16] (in), 2 DIN[17] (in), 3 DIN[18] (in), 4 DIN[19] (in), 5 DIN[20] (in), 6 PCLK (in), 7 SCL (in), 8 SDA (io), 9 ID[x] (in), 10 RES (in), 11 RES (in), 12 MODE (in), 13 PDB (in), 14 VDDPLL (power), 15 VDDT (power), 16 DOUT- (out), 17 DOUT+ (out), 18 VDDCML (power), 19 NC, 20 NC, 21 NC, 22 NC, 23 DIN[0] (in), 24 DIN[1] (in), 25 DIN[2] (in), 26 DIN[3] (in), 27 DIN[4] (in), 28 DIN[5] (in), 29 DIN[6] (in), 30 DIN[7] (in), 31 VDDIO (power), 32 DIN[8] (in), 33 DIN[9] (in), 34 VDDD (power), 35 DIN[10] (in), 36 DIN[11] (in), 37 DIN[12] (in), 38 DIN[13] (in), 39 DIN[14] (in), 40 DIN[15] (in), 41 DAP/GND (power)

## DS90UR903QSQX/NOPB
designator U?
10 - 43MHz 18 Bit Color FPD-Link II Serializer, 40-pin LLP; PartNumber: DS90UR903QSQX/NOPB; Manufacturer: National Semiconductor; PackageTopMarking: NS*UZXYTTE#*UR903QSQ; PowerWise: Y; CompType: Interface IC; DatasheetVersion: Sep-2011; PackageVersion: revB, Mar-2004; PackageReference: SQA40A-V16; PackageDescription: LLP, Plastic, Quad, 6 x 6 x 0.8mm Body, 40 Lead, 0.5mm Pitch, No Pullback; RoHS: Y; PinCount: 40; High-Reliability: Y; ComponentLink1Description: Manufacturer URL; ComponentLink1URL: http://www.national.com/; ComponentLink2Description: DS90UR903Q Datasheet; ComponentLink2URL: http://www.national.com/ds/DS/DS90UR903Q.pdf; ComponentLink3Description: DS90UR903Q Web Page; ComponentLink3URL: http://www.national.com/pf/DS/DS90UR903Q.html; ComponentLink4Description: SQA40A Package Page; ComponentLink4URL: http://www.national.com/packaging/folders/sqa40a.html
footprint SQA40A-V16 (QFN, 40-Leads, Body 6x6mm, Pitch 0.5mm, Thermal Pad 4.7x4.7mm, 16 vias, NSC Recommended)
pins: 1 DIN[16] (in), 2 DIN[17] (in), 3 DIN[18] (in), 4 DIN[19] (in), 5 DIN[20] (in), 6 PCLK (in), 7 SCL (in), 8 SDA (io), 9 ID[x] (in), 10 RES (in), 11 RES (in), 12 MODE (in), 13 PDB (in), 14 VDDPLL (power), 15 VDDT (power), 16 DOUT- (out), 17 DOUT+ (out), 18 VDDCML (power), 19 NC, 20 NC, 21 NC, 22 NC, 23 DIN[0] (in), 24 DIN[1] (in), 25 DIN[2] (in), 26 DIN[3] (in), 27 DIN[4] (in), 28 DIN[5] (in), 29 DIN[6] (in), 30 DIN[7] (in), 31 VDDIO (power), 32 DIN[8] (in), 33 DIN[9] (in), 34 VDDD (power), 35 DIN[10] (in), 36 DIN[11] (in), 37 DIN[12] (in), 38 DIN[13] (in), 39 DIN[14] (in), 40 DIN[15] (in), 41 DAP/GND (power)

## DS90UR904QSQ/NOPB
designator U?
10 - 43MHz 18 Bit Color FPD-Link II Deserializer, 48-pin LLP; PartNumber: DS90UR904QSQ/NOPB; Manufacturer: National Semiconductor; PackageTopMarking: NS*UZXYTTE#*UR904QSQ; PowerWise: Y; CompType: Interface IC; DatasheetVersion: Sep-2011; PackageVersion: revB, May-2009; PackageReference: SQA48A-V21; PackageDescription: LLP, Plastic, Quad, 7 x 7 x 0.8mm Body, 48 Lead, 0.5mm Pitch, No Pullback; RoHS: Y; PinCount: 48; High-Reliability: Y; Code_JEDEC: MO-220-WKKD-2; ComponentLink1Description: Manufacturer URL; ComponentLink1URL: http://www.national.com/; ComponentLink2Description: DS90UR904Q Datasheet; ComponentLink2URL: http://www.national.com/ds/DS/DS90UR903Q.pdf; ComponentLink3Description: DS90UR904Q Web Page; ComponentLink3URL: http://www.national.com/pf/DS/DS90UR904Q.html; ComponentLink4Description: SQA48A Package Page; ComponentLink4URL: http://www.national.com/packaging/folders/sqa48a.html
footprint SQA48A-V21 (QFN, 48-Leads, Body 7x7mm, Pitch 0.5mm, Thermal Pad 5.2x5.2mm, 21 vias, NSC Recommended)
pins: 1 SDA (io), 2 SCL (in), 3 VDDSSCG (power), 4 PCLK (out), 5 ROUT[20] (out), 6 ROUT[19] (out), 7 VDDIO3 (power), 8 ROUT[18] (out), 9 ROUT[17] (out), 10 ROUT[16] (out), 11 ROUT[15] (out), 12 ROUT[14] (out), 13 ROUT[13] (out), 14 ROUT[12] (out), 15 ROUT[11] (out), 16 ROUT[10] (out), 17 VDDD (power), 18 ROUT[9] (out), 19 ROUT[8] (out), 20 VDDIO2 (power), 21 ROUT[7] (out), 22 ROUT[6] (out), 23 ROUT[5] (out), 24 ROUT[4] (out), 25 ROUT[3] (out), 26 ROUT[2] (out), 27 ROUT[1] (out), 28 ROUT[0] (out), 29 VDDIO1 (power), 30 NC, 31 NC, 32 NC, 33 NC, 34 LOCK (out), 35 PDB (in), 36 VDDR (power), 37 RES, 38 RES, 39 RES, 40 VDDCML (power), 41 RIN+ (in), 42 RIN- (in), 43 RES, 44 RES, 45 VDDPLL (power), 46 RES (in), 47 MODE (in), 48 ID[x] (in), 49 DAP/GND (power)

## DS90UR904QSQE/NOPB
designator U?
10 - 43MHz 18 Bit Color FPD-Link II Deserializer, 48-pin LLP; PartNumber: DS90UR904QSQE/NOPB; Manufacturer: National Semiconductor; PackageTopMarking: NS*UZXYTTE#*UR904QSQ; PowerWise: Y; CompType: Interface IC; DatasheetVersion: Sep-2011; PackageVersion: revB, May-2009; PackageReference: SQA48A-V21; PackageDescription: LLP, Plastic, Quad, 7 x 7 x 0.8mm Body, 48 Lead, 0.5mm Pitch, No Pullback; RoHS: Y; PinCount: 48; High-Reliability: Y; Code_JEDEC: MO-220-WKKD-2; ComponentLink1Description: Manufacturer URL; ComponentLink1URL: http://www.national.com/; ComponentLink2Description: DS90UR904Q Datasheet; ComponentLink2URL: http://www.national.com/ds/DS/DS90UR903Q.pdf; ComponentLink3Description: DS90UR904Q Web Page; ComponentLink3URL: http://www.national.com/pf/DS/DS90UR904Q.html; ComponentLink4Description: SQA48A Package Page; ComponentLink4URL: http://www.national.com/packaging/folders/sqa48a.html
footprint SQA48A-V21 (QFN, 48-Leads, Body 7x7mm, Pitch 0.5mm, Thermal Pad 5.2x5.2mm, 21 vias, NSC Recommended)
pins: 1 SDA (io), 2 SCL (in), 3 VDDSSCG (power), 4 PCLK (out), 5 ROUT[20] (out), 6 ROUT[19] (out), 7 VDDIO3 (power), 8 ROUT[18] (out), 9 ROUT[17] (out), 10 ROUT[16] (out), 11 ROUT[15] (out), 12 ROUT[14] (out), 13 ROUT[13] (out), 14 ROUT[12] (out), 15 ROUT[11] (out), 16 ROUT[10] (out), 17 VDDD (power), 18 ROUT[9] (out), 19 ROUT[8] (out), 20 VDDIO2 (power), 21 ROUT[7] (out), 22 ROUT[6] (out), 23 ROUT[5] (out), 24 ROUT[4] (out), 25 ROUT[3] (out), 26 ROUT[2] (out), 27 ROUT[1] (out), 28 ROUT[0] (out), 29 VDDIO1 (power), 30 NC, 31 NC, 32 NC, 33 NC, 34 LOCK (out), 35 PDB (in), 36 VDDR (power), 37 RES, 38 RES, 39 RES, 40 VDDCML (power), 41 RIN+ (in), 42 RIN- (in), 43 RES, 44 RES, 45 VDDPLL (power), 46 RES (in), 47 MODE (in), 48 ID[x] (in), 49 DAP/GND (power)

## DS90UR904QSQX/NOPB
designator U?
10 - 43MHz 18 Bit Color FPD-Link II Deserializer, 48-pin LLP; PartNumber: DS90UR904QSQX/NOPB; Manufacturer: National Semiconductor; PackageTopMarking: NS*UZXYTTE#*UR904QSQ; PowerWise: Y; CompType: Interface IC; DatasheetVersion: Sep-2011; PackageVersion: revB, May-2009; PackageReference: SQA48A-V21; PackageDescription: LLP, Plastic, Quad, 7 x 7 x 0.8mm Body, 48 Lead, 0.5mm Pitch, No Pullback; RoHS: Y; PinCount: 48; High-Reliability: Y; Code_JEDEC: MO-220-WKKD-2; ComponentLink1Description: Manufacturer URL; ComponentLink1URL: http://www.national.com/; ComponentLink2Description: DS90UR904Q Datasheet; ComponentLink2URL: http://www.national.com/ds/DS/DS90UR903Q.pdf; ComponentLink3Description: DS90UR904Q Web Page; ComponentLink3URL: http://www.national.com/pf/DS/DS90UR904Q.html; ComponentLink4Description: SQA48A Package Page; ComponentLink4URL: http://www.national.com/packaging/folders/sqa48a.html
footprint SQA48A-V21 (QFN, 48-Leads, Body 7x7mm, Pitch 0.5mm, Thermal Pad 5.2x5.2mm, 21 vias, NSC Recommended)
pins: 1 SDA (io), 2 SCL (in), 3 VDDSSCG (power), 4 PCLK (out), 5 ROUT[20] (out), 6 ROUT[19] (out), 7 VDDIO3 (power), 8 ROUT[18] (out), 9 ROUT[17] (out), 10 ROUT[16] (out), 11 ROUT[15] (out), 12 ROUT[14] (out), 13 ROUT[13] (out), 14 ROUT[12] (out), 15 ROUT[11] (out), 16 ROUT[10] (out), 17 VDDD (power), 18 ROUT[9] (out), 19 ROUT[8] (out), 20 VDDIO2 (power), 21 ROUT[7] (out), 22 ROUT[6] (out), 23 ROUT[5] (out), 24 ROUT[4] (out), 25 ROUT[3] (out), 26 ROUT[2] (out), 27 ROUT[1] (out), 28 ROUT[0] (out), 29 VDDIO1 (power), 30 NC, 31 NC, 32 NC, 33 NC, 34 LOCK (out), 35 PDB (in), 36 VDDR (power), 37 RES, 38 RES, 39 RES, 40 VDDCML (power), 41 RIN+ (in), 42 RIN- (in), 43 RES, 44 RES, 45 VDDPLL (power), 46 RES (in), 47 MODE (in), 48 ID[x] (in), 49 DAP/GND (power)

## DS90UR905QSQ/NOPB
designator U?
5-65MHz 24-bit Color FPD-Link II Serializer, 48 pin LLP; PartNumber: DS90UR905QSQ/NOPB; Manufacturer: National Semiconductor; PackageTopMarking: NS*UZXYTTE#*UR905QSQ; PowerWise: Y; CompType: Interface IC; DatasheetVersion: May-2010; PackageVersion: revB, May-2009; PackageReference: SQA48A; PackageDescription: LLP, Plastic, Quad, 7 x 7 x 0.8mm Body, 48 Lead, 0.5mm Pitch, No Pullback; RoHS: Y; PinCount: 48; High-Reliability: Y; Code_JEDEC: MO-220-WKKD-2; ComponentLink1Description: Manufacturer URL; ComponentLink1URL: http://www.national.com/; ComponentLink2Description: DS90UR905Q Datasheet; ComponentLink2URL: http://www.national.com/ds/DS/DS90UR905Q.pdf; ComponentLink3Description: DS90UR905Q Web Page; ComponentLink3URL: http://www.national.com/pf/DS/DS90UR905Q.html; ComponentLink4Description: SQA48A Package Page; ComponentLink4URL: http://www.national.com/packaging/folders/sqa48a.html
footprint SQA48A (QFN, 48-Leads, Body 7x7mm, Pitch 0.5mm, Thermal Pad 5.2x5.2mm, NSC Recommended)
pins: 1 B[6] (in), 2 B[7] (in), 3 HS (in), 4 VS (in), 5 DE (in), 6 ID[X] (in), 7 VDDL (power), 8 SCL (in), 9 SDA (io), 10 PCLK (in), 11 RFB (in), 12 CONFIG[0] (in), 13 CONFIG[1] (in), 14 VDDP (power), 15 RES0 (in), 16 RES1 (in), 17 VDDHS (power), 18 RES2 (in), 19 DOUT- (out), 20 DOUT+ (out), 21 PDB (in), 22 VDDTX (power), 23 DE-EMPH (in), 24 VODSEL (in), 25 R[0] (in), 26 R[1] (in), 27 R[2] (in), 28 R[3] (in), 29 R[4] (in), 30 VDDIO (power), 31 BISTEN (in), 32 R[5] (in), 33 R[6] (in), 34 R[7] (in), 35 G[0] (in), 36 G[1] (in), 37 G[2] (in), 38 G[3] (in), 39 G[4] (in), 40 G[5] (in), 41 G[6] (in), 42 G[7] (in), 43 B[0] (in), 44 B[1] (in), 45 B[2] (in), 46 B[3] (in), 47 B[4] (in), 48 B[5] (in), 49 DAP/GND (power)

## DS90UR905QSQE/NOPB
designator U?
5-65MHz 24-bit Color FPD-Link II Serializer, 48 pin LLP; PartNumber: DS90UR905QSQE/NOPB; Manufacturer: National Semiconductor; PackageTopMarking: NS*UZXYTTE#*UR905QSQ; PowerWise: Y; CompType: Interface IC; DatasheetVersion: May-2010; PackageVersion: revB, May-2009; PackageReference: SQA48A; PackageDescription: LLP, Plastic, Quad, 7 x 7 x 0.8mm Body, 48 Lead, 0.5mm Pitch, No Pullback; RoHS: Y; PinCount: 48; High-Reliability: Y; Code_JEDEC: MO-220-WKKD-2; ComponentLink1Description: Manufacturer URL; ComponentLink1URL: http://www.national.com/; ComponentLink2Description: DS90UR905Q Datasheet; ComponentLink2URL: http://www.national.com/ds/DS/DS90UR905Q.pdf; ComponentLink3Description: DS90UR905Q Web Page; ComponentLink3URL: http://www.national.com/pf/DS/DS90UR905Q.html; ComponentLink4Description: SQA48A Package Page; ComponentLink4URL: http://www.national.com/packaging/folders/sqa48a.html
footprint SQA48A (QFN, 48-Leads, Body 7x7mm, Pitch 0.5mm, Thermal Pad 5.2x5.2mm, NSC Recommended)
pins: 1 B[6] (in), 2 B[7] (in), 3 HS (in), 4 VS (in), 5 DE (in), 6 ID[X] (in), 7 VDDL (power), 8 SCL (in), 9 SDA (io), 10 PCLK (in), 11 RFB (in), 12 CONFIG[0] (in), 13 CONFIG[1] (in), 14 VDDP (power), 15 RES0 (in), 16 RES1 (in), 17 VDDHS (power), 18 RES2 (in), 19 DOUT- (out), 20 DOUT+ (out), 21 PDB (in), 22 VDDTX (power), 23 DE-EMPH (in), 24 VODSEL (in), 25 R[0] (in), 26 R[1] (in), 27 R[2] (in), 28 R[3] (in), 29 R[4] (in), 30 VDDIO (power), 31 BISTEN (in), 32 R[5] (in), 33 R[6] (in), 34 R[7] (in), 35 G[0] (in), 36 G[1] (in), 37 G[2] (in), 38 G[3] (in), 39 G[4] (in), 40 G[5] (in), 41 G[6] (in), 42 G[7] (in), 43 B[0] (in), 44 B[1] (in), 45 B[2] (in), 46 B[3] (in), 47 B[4] (in), 48 B[5] (in), 49 DAP/GND (power)

## DS90UR905QSQX/NOPB
designator U?
5-65MHz 24-bit Color FPD-Link II Serializer, 48 pin LLP; PartNumber: DS90UR905QSQX/NOPB; Manufacturer: National Semiconductor; PackageTopMarking: NS*UZXYTTE#*UR905QSQ; PowerWise: Y; CompType: Interface IC; DatasheetVersion: May-2010; PackageVersion: revB, May-2009; PackageReference: SQA48A; PackageDescription: LLP, Plastic, Quad, 7 x 7 x 0.8mm Body, 48 Lead, 0.5mm Pitch, No Pullback; RoHS: Y; PinCount: 48; High-Reliability: Y; Code_JEDEC: MO-220-WKKD-2; ComponentLink1Description: Manufacturer URL; ComponentLink1URL: http://www.national.com/; ComponentLink2Description: DS90UR905Q Datasheet; ComponentLink2URL: http://www.national.com/ds/DS/DS90UR905Q.pdf; ComponentLink3Description: DS90UR905Q Web Page; ComponentLink3URL: http://www.national.com/pf/DS/DS90UR905Q.html; ComponentLink4Description: SQA48A Package Page; ComponentLink4URL: http://www.national.com/packaging/folders/sqa48a.html
footprint SQA48A (QFN, 48-Leads, Body 7x7mm, Pitch 0.5mm, Thermal Pad 5.2x5.2mm, NSC Recommended)
pins: 1 B[6] (in), 2 B[7] (in), 3 HS (in), 4 VS (in), 5 DE (in), 6 ID[X] (in), 7 VDDL (power), 8 SCL (in), 9 SDA (io), 10 PCLK (in), 11 RFB (in), 12 CONFIG[0] (in), 13 CONFIG[1] (in), 14 VDDP (power), 15 RES0 (in), 16 RES1 (in), 17 VDDHS (power), 18 RES2 (in), 19 DOUT- (out), 20 DOUT+ (out), 21 PDB (in), 22 VDDTX (power), 23 DE-EMPH (in), 24 VODSEL (in), 25 R[0] (in), 26 R[1] (in), 27 R[2] (in), 28 R[3] (in), 29 R[4] (in), 30 VDDIO (power), 31 BISTEN (in), 32 R[5] (in), 33 R[6] (in), 34 R[7] (in), 35 G[0] (in), 36 G[1] (in), 37 G[2] (in), 38 G[3] (in), 39 G[4] (in), 40 G[5] (in), 41 G[6] (in), 42 G[7] (in), 43 B[0] (in), 44 B[1] (in), 45 B[2] (in), 46 B[3] (in), 47 B[4] (in), 48 B[5] (in), 49 DAP/GND (power)

## DS90UR906QSQ/NOPB
designator U?
5-65MHz 24-bit Color FPD-Link II Deserializer, 60 pin LLP; PartNumber: DS90UR906QSQ/NOPB; Manufacturer: National Semiconductor; PackageTopMarking: NS*UZXYTTE#*UR906QSQ; PowerWise: Y; CompType: Interface IC; DatasheetVersion: May-2010; PackageVersion: revB, Jun-2009; PackageReference: SQA60B; PackageDescription: LLP, Quad, 9 x 9 x 0.8mm Body, 60 Lead, 0.5 mm Pitch, No Pullback, 6.3 x 6.3 mm Exposed Pad; RoHS: Y; PinCount: 60; High-Reliability: Y; ComponentLink1Description: Manufacturer URL; ComponentLink1URL: http://www.national.com/; ComponentLink2Description: DS90UR906Q Datasheet; ComponentLink2URL: http://www.national.com/ds/DS/DS90UR906Q.pdf; ComponentLink3Description: DS90UR906Q Web Page; ComponentLink3URL: http://www.national.com/pf/DS/DS90UR906Q.html; ComponentLink4Description: SQA60B Package Page; ComponentLink4URL: http://www.national.com/packaging/folders/sqa60b.html
footprint SQA60B (QFN, 60-Leads, Body 9x9mm, Pitch 0.5mm, Thermal Pad 6.3x6.3mm, NSC Recommended)
part A pins: 2 SDA (io), 3 SCL (in), 5 PCLK (out), 6 DE (out), 7 VS (out), 8 HS (out), 9 B[7]/CONFIG[0] (io), 10 B[6]/CONFIG[1] (io), 11 B[5]/OS_PCLK (io), 12 B[4]/LF_MODE (io), 14 B[3]/OS_DATA (io), 17 B[2]/OSS_SEL (io), 18 B[1]/RFB (io), 19 B[0] (io), 20 G[7]/EQ[3] (io), 21 G[6]/EQ[2] (io), 22 G[5]/EQ[1] (io), 23 G[4]/EQ[0] (io), 25 G[3] (io), 26 G[2]/OSC_SEL[2] (io), 27 G[1]/OSC_SEL[1] (io), 28 G[0]/OSC_SEL[0] (io), 32 LOCK (out), 33 R[7] (io), 34 R[6]/SSC[3] (io), 35 R[5]/SSC[2] (io), 36 R[4]/SSC[1] (io), 37 R[3]/SSC[0] (io), 39 R[2] (io), 40 R[1]/MAP_SEL[1] (io), 41 R[0]/MAP_SEL[0] (io), 42 PASS/OP_LOW (io), 44 BISTEN (in), 47 RES (in), 49 RIN+ (in), 50 RIN- (in), 51 CMF (in), 52 CMLOUTP (out), 53 CMLOUTN (out), 56 ID[X] (in), 59 PDB (in)
part B pins: 1 NC, 4 VDDSC (power), 13 VDDIO (power), 15 NC, 16 NC, 24 VDDIO (power), 29 VDDL (power), 30 NC, 31 NC, 38 VDDIO (power), 43 VDDR (power), 45 NC, 46 NC, 48 VDDIR (power), 54 VDDCMLO (power), 55 VDDR (power), 57 VDDPR (power), 58 VDDSC (power), 60 NC, 61 DAP/GND (power)

## DS90UR906QSQE/NOPB
designator U?
5-65MHz 24-bit Color FPD-Link II Deserializer, 60 pin LLP; PartNumber: DS90UR906QSQE/NOPB; Manufacturer: National Semiconductor; PackageTopMarking: NS*UZXYTTE#*UR906QSQ; PowerWise: Y; CompType: Interface IC; DatasheetVersion: May-2010; PackageVersion: revB, Jun-2009; PackageReference: SQA60B; PackageDescription: LLP, Quad, 9 x 9 x 0.8mm Body, 60 Lead, 0.5 mm Pitch, No Pullback, 6.3 x 6.3 mm Exposed Pad; RoHS: Y; PinCount: 60; High-Reliability: Y; ComponentLink1Description: Manufacturer URL; ComponentLink1URL: http://www.national.com/; ComponentLink2Description: DS90UR906Q Datasheet; ComponentLink2URL: http://www.national.com/ds/DS/DS90UR906Q.pdf; ComponentLink3Description: DS90UR906Q Web Page; ComponentLink3URL: http://www.national.com/pf/DS/DS90UR906Q.html; ComponentLink4Description: SQA60B Package Page; ComponentLink4URL: http://www.national.com/packaging/folders/sqa60b.html
footprint SQA60B (QFN, 60-Leads, Body 9x9mm, Pitch 0.5mm, Thermal Pad 6.3x6.3mm, NSC Recommended)
part A pins: 2 SDA (io), 3 SCL (in), 5 PCLK (out), 6 DE (out), 7 VS (out), 8 HS (out), 9 B[7]/CONFIG[0] (io), 10 B[6]/CONFIG[1] (io), 11 B[5]/OS_PCLK (io), 12 B[4]/LF_MODE (io), 14 B[3]/OS_DATA (io), 17 B[2]/OSS_SEL (io), 18 B[1]/RFB (io), 19 B[0] (io), 20 G[7]/EQ[3] (io), 21 G[6]/EQ[2] (io), 22 G[5]/EQ[1] (io), 23 G[4]/EQ[0] (io), 25 G[3] (io), 26 G[2]/OSC_SEL[2] (io), 27 G[1]/OSC_SEL[1] (io), 28 G[0]/OSC_SEL[0] (io), 32 LOCK (out), 33 R[7] (io), 34 R[6]/SSC[3] (io), 35 R[5]/SSC[2] (io), 36 R[4]/SSC[1] (io), 37 R[3]/SSC[0] (io), 39 R[2] (io), 40 R[1]/MAP_SEL[1] (io), 41 R[0]/MAP_SEL[0] (io), 42 PASS/OP_LOW (io), 44 BISTEN (in), 47 RES (in), 49 RIN+ (in), 50 RIN- (in), 51 CMF (in), 52 CMLOUTP (out), 53 CMLOUTN (out), 56 ID[X] (in), 59 PDB (in)
part B pins: 1 NC, 4 VDDSC (power), 13 VDDIO (power), 15 NC, 16 NC, 24 VDDIO (power), 29 VDDL (power), 30 NC, 31 NC, 38 VDDIO (power), 43 VDDR (power), 45 NC, 46 NC, 48 VDDIR (power), 54 VDDCMLO (power), 55 VDDR (power), 57 VDDPR (power), 58 VDDSC (power), 60 NC, 61 DAP/GND (power)

## DS90UR906QSQX/NOPB
designator U?
5-65MHz 24-bit Color FPD-Link II Deserializer, 60 pin LLP; PartNumber: DS90UR906QSQX/NOPB; Manufacturer: National Semiconductor; PackageTopMarking: NS*UZXYTTE#*UR906QSQ; PowerWise: Y; CompType: Interface IC; DatasheetVersion: May-2010; PackageVersion: revB, Jun-2009; PackageReference: SQA60B; PackageDescription: LLP, Quad, 9 x 9 x 0.8mm Body, 60 Lead, 0.5 mm Pitch, No Pullback, 6.3 x 6.3 mm Exposed Pad; RoHS: Y; PinCount: 60; High-Reliability: Y; ComponentLink1Description: Manufacturer URL; ComponentLink1URL: http://www.national.com/; ComponentLink2Description: DS90UR906Q Datasheet; ComponentLink2URL: http://www.national.com/ds/DS/DS90UR906Q.pdf; ComponentLink3Description: DS90UR906Q Web Page; ComponentLink3URL: http://www.national.com/pf/DS/DS90UR906Q.html; ComponentLink4Description: SQA60B Package Page; ComponentLink4URL: http://www.national.com/packaging/folders/sqa60b.html
footprint SQA60B (QFN, 60-Leads, Body 9x9mm, Pitch 0.5mm, Thermal Pad 6.3x6.3mm, NSC Recommended)
part A pins: 2 SDA (io), 3 SCL (in), 5 PCLK (out), 6 DE (out), 7 VS (out), 8 HS (out), 9 B[7]/CONFIG[0] (io), 10 B[6]/CONFIG[1] (io), 11 B[5]/OS_PCLK (io), 12 B[4]/LF_MODE (io), 14 B[3]/OS_DATA (io), 17 B[2]/OSS_SEL (io), 18 B[1]/RFB (io), 19 B[0] (io), 20 G[7]/EQ[3] (io), 21 G[6]/EQ[2] (io), 22 G[5]/EQ[1] (io), 23 G[4]/EQ[0] (io), 25 G[3] (io), 26 G[2]/OSC_SEL[2] (io), 27 G[1]/OSC_SEL[1] (io), 28 G[0]/OSC_SEL[0] (io), 32 LOCK (out), 33 R[7] (io), 34 R[6]/SSC[3] (io), 35 R[5]/SSC[2] (io), 36 R[4]/SSC[1] (io), 37 R[3]/SSC[0] (io), 39 R[2] (io), 40 R[1]/MAP_SEL[1] (io), 41 R[0]/MAP_SEL[0] (io), 42 PASS/OP_LOW (io), 44 BISTEN (in), 47 RES (in), 49 RIN+ (in), 50 RIN- (in), 51 CMF (in), 52 CMLOUTP (out), 53 CMLOUTN (out), 56 ID[X] (in), 59 PDB (in)
part B pins: 1 NC, 4 VDDSC (power), 13 VDDIO (power), 15 NC, 16 NC, 24 VDDIO (power), 29 VDDL (power), 30 NC, 31 NC, 38 VDDIO (power), 43 VDDR (power), 45 NC, 46 NC, 48 VDDIR (power), 54 VDDCMLO (power), 55 VDDR (power), 57 VDDPR (power), 58 VDDSC (power), 60 NC, 61 DAP/GND (power)

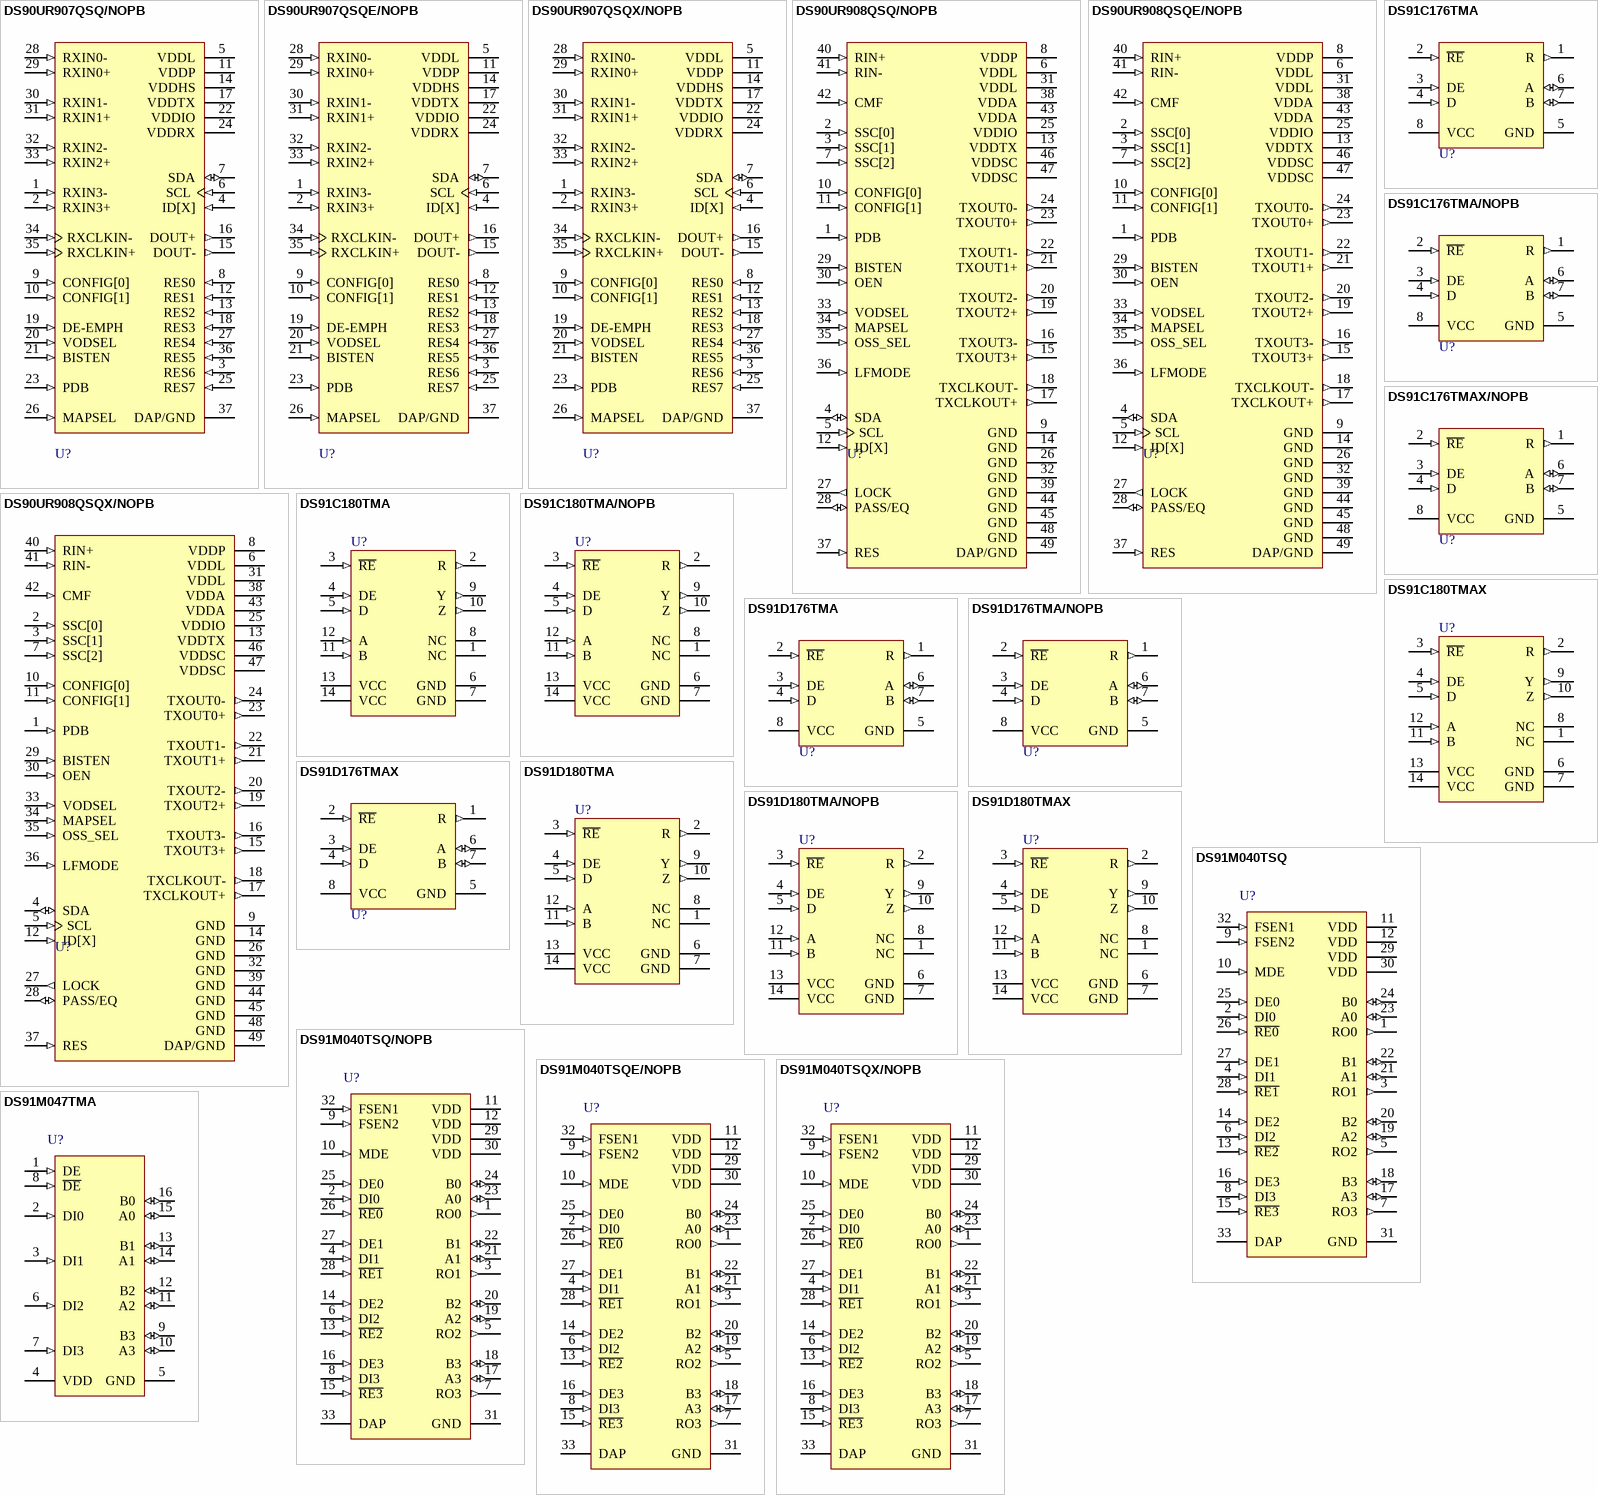
[diagram p66: symbols DS90UR907QSQ/NOPB to DS91M047TMA]

## DS90UR907QSQ/NOPB
designator U?
5-65 MHz 24-bit Color FPD-Link to FPD-Link II Converter, 36 pin LLP; PartNumber: DS90UR907QSQ/NOPB; Manufacturer: National Semiconductor; PackageTopMarking: NS*UZXYTTE#*UR907QSQ; PowerWise: Y; CompType: Interface IC; DatasheetVersion: Jul-2010; PackageVersion: revA, Jun-2003; PackageReference: SQA36A; PackageDescription: LLP, Plastic, Quad, 6 x 6 x 0.8mm Body, 36 Lead, 0.5mm Pitch, No Pullback; RoHS: Y; PinCount: 36; High-Reliability: Y; ComponentLink1Description: Manufacturer URL; ComponentLink1URL: http://www.national.com/; ComponentLink2Description: DS90UR907Q Datasheet; ComponentLink2URL: http://www.national.com/ds/DS/DS90UR907Q.pdf; ComponentLink3Description: DS90UR907Q Web Page; ComponentLink3URL: http://www.national.com/pf/DS/DS90UR907Q.html; ComponentLink4Description: SQA36A Package Page; ComponentLink4URL: http://www.national.com/packaging/folders/sqa36a.html
footprint SQA36A (QFN, 36-Leads, Body 6x6mm, Pitch 0.5mm, Thermal Pad 4.7x4.7mm, NSC Recommended)
pins: 1 RXIN3- (in), 2 RXIN3+ (in), 3 RES6 (in), 4 ID[X] (in), 5 VDDL (power), 6 SCL (in), 7 SDA (io), 8 RES0 (in), 9 CONFIG[0] (in), 10 CONFIG[1] (in), 11 VDDP (power), 12 RES1 (in), 13 RES2 (in), 14 VDDHS (power), 15 DOUT- (out), 16 DOUT+ (out), 17 VDDTX (power), 18 RES3 (in), 19 DE-EMPH (in), 20 VODSEL (in), 21 BISTEN (in), 22 VDDIO (power), 23 PDB (in), 24 VDDRX (power), 25 RES7 (in), 26 MAPSEL (in), 27 RES4 (in), 28 RXIN0- (in), 29 RXIN0+ (in), 30 RXIN1- (in), 31 RXIN1+ (in), 32 RXIN2- (in), 33 RXIN2+ (in), 34 RXCLKIN- (in), 35 RXCLKIN+ (in), 36 RES5 (in), 37 DAP/GND (power)